# Altium integrated library Connector Header Through Hole 6 position.IntLib: 1 symbol
Pins are listed as number, name and electrical type; pins without a type are passive.

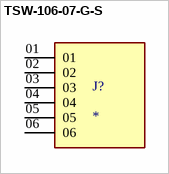
[diagram p0: symbol TSW-106-07-G-S]

## TSW-106-07-G-S
designator J?
MF: Samtec Inc.; MP: TSW-106-07-G-S; Value: *; Availability: Unavailable; Price: None; Package: None
footprint SAMTEC_TSW-106-07-G-S
pins: 01, 02, 03, 04, 05, 06